# Altium schematic symbol library RF_WiFi.SchLib: 2 symbols
Pins are listed as number, name and electrical type; pins without a type are passive.

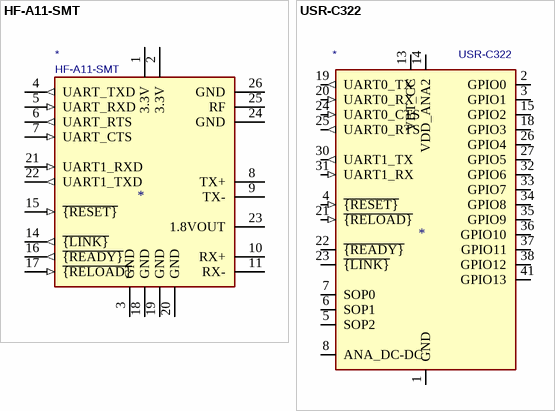
[diagram p0: symbols HF-A11-SMT to USR-C322]

## HF-A11-SMT
designator *  value HF-A11-SMT
ki_keywords: WiFi IEEE802.11 b/g/n; ki_description: WiFi IEEE802.11b/g/n with Ethernet Module, UART, GPIO; Supplier: http://www.hi-flying.com/index.php?route=tool/upload/download&code=190ec6c62d497905ed783d140f8e5af7a753b8ab
pins: 1 3.3V (power), 2 3.3V (power), 3 GND (power), 4 UART_TXD (out), 5 UART_RXD (in), 6 UART_RTS (out), 7 UART_CTS (in), 8 TX+, 9 TX-, 10 RX+, 11 RX-, 14 ~{{LINK}} (out), 15 ~{{RESET}} (in), 16 ~{{READY}} (out), 17 ~{{RELOAD}} (in), 18 GND (power), 19 GND (power), 20 GND (power), 21 UART1_RXD (in), 22 UART1_TXD (out), 23 1.8VOUT (power), 24 GND (power), 25 RF, 26 GND (power)

## USR-C322
designator *  value USR-C322
ki_keywords: WiFi IEEE802.11 b/g/n; ki_description: 802.11 b/g/n Wi-Fi Module; ki_fp_filters: USR?C322*; Footprint: RF_WiFi:USR-C322; Supplier: https://www.usriot.com/download/WIFI/USR-C322%20User%20Manual%20V2.3.pdf
footprint USR-C322
pins: 1 GND (power), 2 GPIO0 (io), 3 GPIO1 (io), 4 ~{{RESET}} (in), 5 SOP2, 6 SOP1, 7 SOP0, 8 ANA_DC-DC, 9 NC (in) hidden, 10 NC (in) hidden, 11 GND hidden, 12 GND hidden, 13 VBT_CC (power), 14 VDD_ANA2 (power), 15 GPIO2 (io), 16 NC (in) hidden, 17 GND hidden, 18 GPIO3 (io), 19 UART0_TX (out), 20 UART0_RX (in), 21 ~{{RELOAD}} (in), 22 ~{{READY}} (oc), 23 ~{{LINK}} (oc), 24 UART0_CTS (in), 25 UART0_RTS (out), 26 GPIO4 (io), 27 GPIO5 (io), 28 GND hidden, 29 GND hidden, 30 UART1_TX (out), 31 UART1_RX (in), 32 GPIO6 (io), 33 GPIO7 (io), 34 GPIO8 (io), 35 GPIO9 (io), 36 GPIO10 (io), 37 GPIO11 (io), 38 GPIO12 (io), 39 NC (in) hidden, 40 NC (in) hidden, 41 GPIO13 (io), 42 NC (in) hidden, 43 NC (in) hidden, 44 GND hidden